# EAGLE library part UBLOX-MAX-M8 (library Explore Labs EAGLE Library)
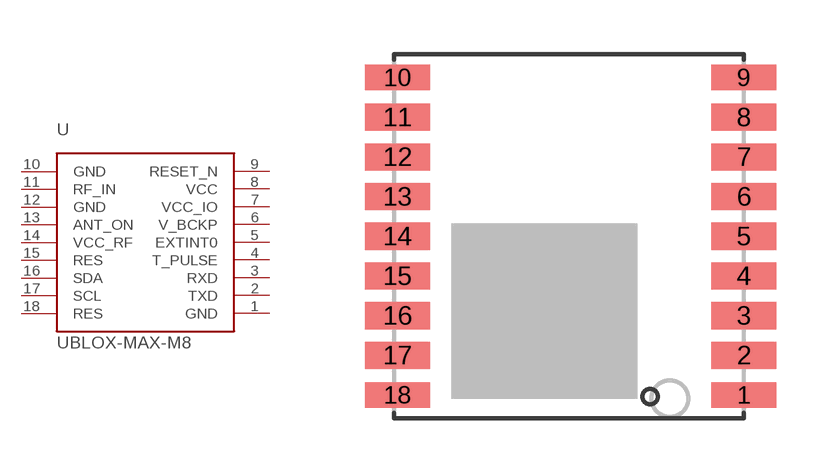
[diagram p15: symbol with the pads of UBLOX-MAX-M8; footprint UBLOX-MAX-M8]

Designator prefix -

## UBLOX-MAX-M8Q  [UBLOX-MAX-M8]
1  GND
2  TXD
3  RXD
4  T_PULSE
5  EXTINT0
6  V_BCKP
7  VCC_IO
8  VCC
9  RESET_N
10  GND
11  RF_IN
12  GND
13  ANT_ON
14  VCC_RF
15  RES
16  SDA
17  SCL
18  RES

## Footprint UBLOX-MAX-M8 (pad centres in mm)
smd 1.8 x 0.7: 1 4.8,-4.4; 9 4.8,4.4; 10 -4.8,4.4; 18 -4.8,-4.4
smd 1.8 x 0.75: 2 4.8,-3.3; 3 4.8,-2.2; 4 4.8,-1.1; 5 4.8,0; 6 4.8,1.1; 7 4.8,2.2; 8 4.8,3.3; 11 -4.8,3.3; 12 -4.8,2.2; 13 -4.8,1.1; 14 -4.8,0; 15 -4.8,-1.1; 16 -4.8,-2.2; 17 -4.8,-3.3